# Altium schematic symbol library lib_robot.SchLib: 2 symbols
Pins are listed as number, name and electrical type; pins without a type are passive.

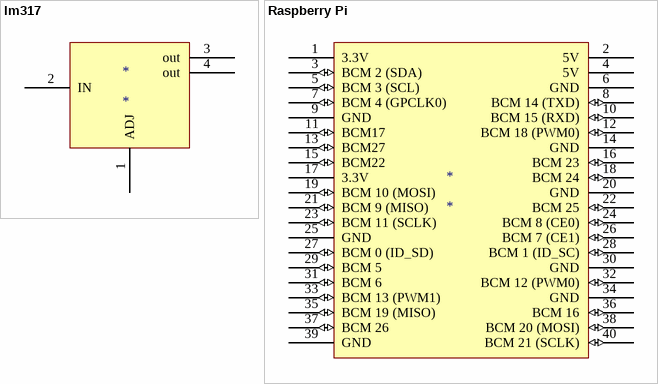
[diagram p0: symbols lm317 to Raspberry Pi]

## lm317
designator *
footprint LM317-k
pins: 1 ADJ (power), 2 IN (power), 3 out (power), 4 out (power)

## Raspberry Pi
designator *
footprint IDC-34
pins: 1 3.3V (power), 2 5V (power), 3 BCM 2 (SDA) (io), 4 5V (power), 5 BCM 3 (SCL) (io), 6 GND (power), 7 BCM 4 (GPCLK0) (io), 8 BCM 14 (TXD) (io), 9 GND (power), 10 BCM 15 (RXD) (io), 11 BCM17 (io), 12 BCM 18 (PWM0) (io), 13 BCM27 (io), 14 GND (power), 15 BCM22 (io), 16 BCM 23 (io), 17 3.3V (power), 18 BCM 24 (io), 19 BCM 10 (MOSI) (io), 20 GND (power), 21 BCM 9 (MISO) (io), 22 BCM 25 (io), 23 BCM 11 (SCLK) (io), 24 BCM 8 (CE0) (io), 25 GND (power), 26 BCM 7 (CE1) (io), 27 BCM 0 (ID_SD) (io), 28 BCM 1 (ID_SC) (io), 29 BCM 5 (io), 30 GND (power), 31 BCM 6 (io), 32 BCM 12 (PWM0) (io), 33 BCM 13 (PWM1) (io), 34 GND (power), 35 BCM 19 (MISO) (io), 36 BCM 16 (io), 37 BCM 26 (io), 38 BCM 20 (MOSI) (io), 39 GND (power), 40 BCM 21 (SCLK) (io)